# Altium schematic symbol library LT6375MS.Schlib: 1 symbol
Pins are listed as number, name and electrical type; pins without a type are passive.

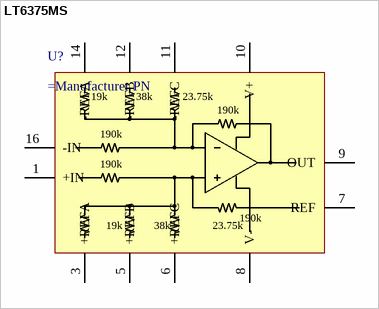
[diagram p0: symbol LT6375MS]

## LT6375MS
designator U?
High Voltage Diff Amp, MS package
pins: 1 +IN, 3 +REFA, 5 +REFB, 6 +REFC, 7 REF, 8 V-, 9 OUT, 10 V+, 11 -REFC, 12 -REFB, 14 -REFA, 16 -IN
text: 19k; 38k; 23.75k; 190k